# Altium footprint library LGA.PcbLib: 1 footprints
Each footprint in its own frame and in the unit in brackets; x right, y up, seen from the top. Pads: shape width x height; smd on the part's side, far side on the other; paste and mask are expansions set on the pad; w line width, h text height; cw(c..) or ccw(c..) is an arc to the next point about the centre after c.
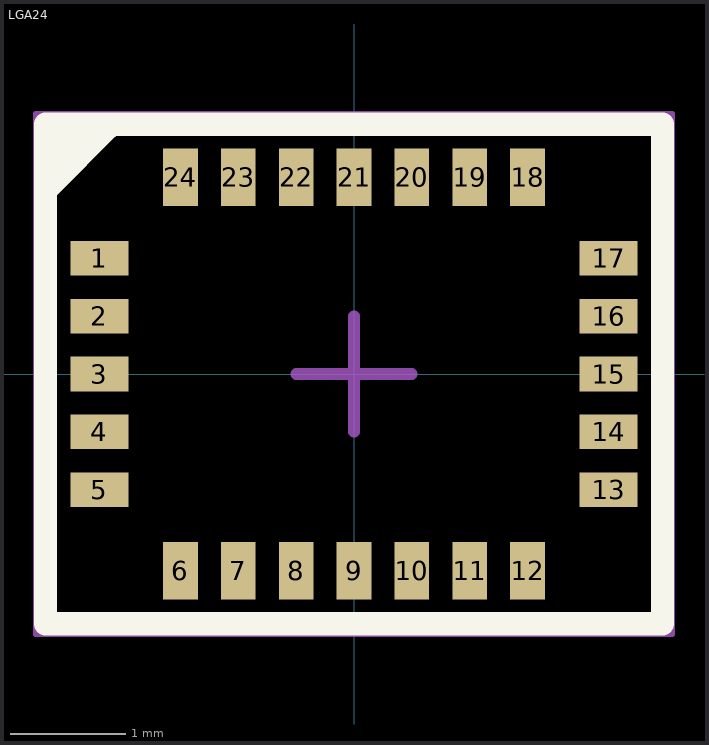
[diagram p0: the footprint, top view; thin cyan lines are the x and y axes]

## LGA24 [mm]
height 2.01
pads (24):
  rect 0.5x0.3 smd: 1(-2.2,1) 2(-2.2,0.5) 3(-2.2,0) 4(-2.2,-0.5) 5(-2.2,-1) 13(2.2,-1) 14(2.2,-0.5) 15(2.2,0) 16(2.2,0.5) 17(2.2,1)
  rect 0.3x0.5 smd: 6(-1.5,-1.7) 7(-1,-1.7) 8(-0.5,-1.7) 9(0,-1.7) 10(0.5,-1.7) 11(1,-1.7) 12(1.5,-1.7) 18(1.5,1.7) 19(1,1.7) 20(0.5,1.7) 21(0,1.7) 22(-0.5,1.7) 23(-1,1.7) 24(-1.5,1.7)
Top Overlay:
  region: -2.163,2.159 -2.663,1.659 -2.663,2.159
  lines w0.2: -2.627,1.627 -2.127,2.127 ; -2.667,-2.159 2.667,-2.159 2.667,2.159 -2.667,2.159 -2.667,-2.159
3D:
  lines w0.1: -2.667,-2.159 -2.667,2.159 2.667,2.159 2.667,-2.159 -2.667,-2.159
Mechanical 15:
  lines w0.05: -2.75,-2.25 2.75,-2.25 2.75,2.25 -2.75,2.25 -2.75,-2.25
  lines w0.1: -0.5,0 0.5,0 ; 0,-0.5 0,0.5
3D body "LGA24.step": height 2.01, standoff 0, extent -2.55,-2.05 2.55,2.05